# Altium footprint library Resistors.PcbLib: 65 footprints (part 5 of 5)
Each footprint in its own frame and in the unit in brackets; x right, y up, seen from the top. Pads: shape width x height; smd on the part's side, far side on the other; paste and mask are expansions set on the pad; w line width, h text height; cw(c..) or ccw(c..) is an arc to the next point about the centre after c.
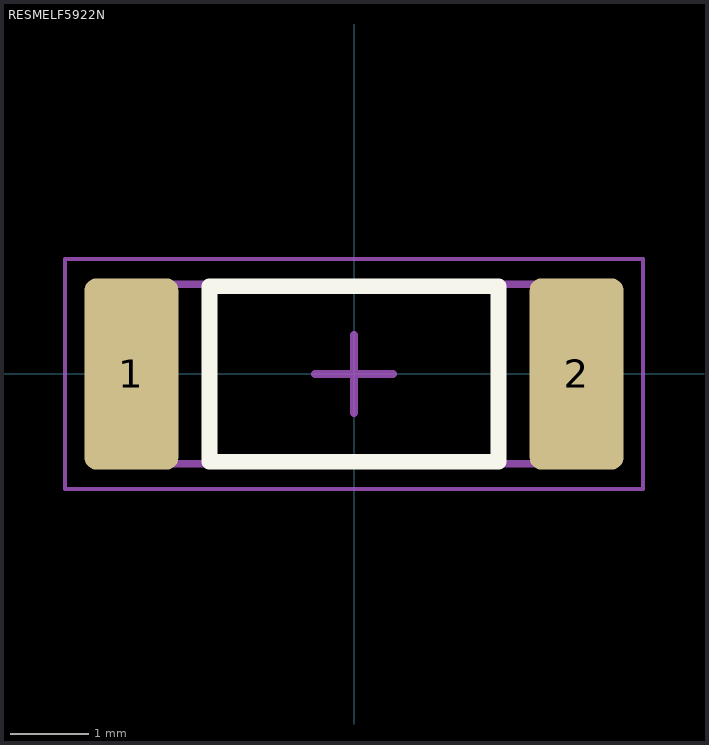
[diagram p4: the footprint, top view; thin cyan lines are the x and y axes]

## RESMELF5922N [mm] "MELF Resistor, MELF MMB-0207, Body 5.90x2.20mm, IPC Medium Density"
height 2.3
pads (2):
  rrect25% 1.2x2.45 smd paste+0 mask+0.05: 1(-2.85,0) 2(2.85,0)
Top Overlay:
  lines w0.2: -1.85,-1.125 1.85,-1.125 1.85,1.125 -1.85,1.125 -1.85,-1.125
Top Component Outline:
  lines w0.1: -2.95,-1.15 -2.95,1.15 3.15,1.15 3.15,-1.15 -2.95,-1.15
Top Courtyard:
  lines w0.05: -3.7,-1.475 -3.7,1.475 3.7,1.475 3.7,-1.475 -3.7,-1.475
Top Component Center:
  lines w0.1: -0.5,0 0.5,0 ; 0,-0.5 0,0.5
Top Designator:
  text ".Designator" at -4.04,-0.476 h2
Top Assembly:
  lines w0.1: -3.05,-1.15 -3.05,1.15 3.05,1.15 3.05,-1.15 -3.05,-1.15
  text ".Designator" at -4.04,-0.476 h2
3D body "RESMELF5922.step": height 2.2, standoff 0, extent -2.95,-1.092 2.95,1.092